# EAGLE library part 3.3K-1%_ARRAY (library ds_resistor)
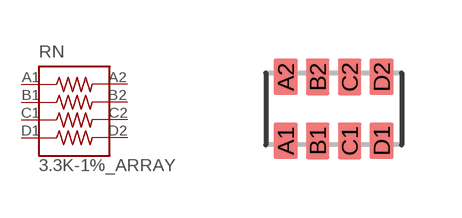
[diagram p5: symbol with the pads of _0603X4-1206; footprint _0603X4-1206]

Designator prefix RN

## 3.3K-1%_ARRAY0603X4-1206 (DESCRIPTION: 4 ±1% 3.3kΩ 62.5mW ±200ppm/℃ 0603x4 Resistor Networks, Arrays ROHS; HQ_PART: RE0093863; LCSC_PART: C1734380; MANUFACTURER: Yageo; MPN: TC164-FR-073K3L; PACKAGE: _0603X4-1206; ROHS: YES; VALUE: 3.3K 1%)  [_0603X4-1206]
A1  1  pas
A2  8  pas
B1  2  pas
B2  7  pas
C1  3  pas
C2  6  pas
D1  4  pas
D2  5  pas

## Footprint _0603X4-1206 (pad centres in mm)
smd 0.59 x 0.92: A1 -1.2,-0.8; A2 -1.2,0.8; B1 -0.4,-0.8; B2 -0.4,0.8; C1 0.4,-0.8; C2 0.4,0.8; D1 1.2,-0.8; D2 1.2,0.8